# EAGLE library part LF411 (library BME_Components)
Low Offset, Low Drift JFET Input Operational Amplifier, 8-pin MDIP
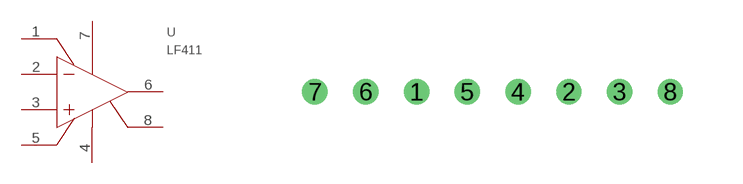
[diagram p28: symbol with the pads of LF411_PDIP-8; footprint LF411_PDIP-8]

Designator prefix U

## LF411LF411_LF411_PDIP-8 (CODE_JEDEC: MS-001-BA; COMPTYPE: Amplifiers; DATASHEETVERSION: Aug-2000; MANUFACTURER: National Semiconductor; PACKAGEDESCRIPTION: MDIP, .365 x .250 x .130in, 8 Lead, .100in Pitch; PACKAGEREFERENCE: N08E; PACKAGETOPMARKING: NSUZXYTTE#*LF*411ACN; PACKAGEVERSION: revG, May-2006; PINCOUNT: 8; POWERWISE: N; ROHS: N)  [LF411_PDIP-8]
1  BAL  pas
2  IN-  in
3  IN+  in
4  V-  pwr
5  BAL  pas
6  OUT  out
7  V+  pwr
8  NC  pas

## Footprint LF411_PDIP-8 (pad centres in mm)
drill 0.127 pad 0.254 round: 1 2.54,0; 2 6.35,0; 3 7.62,0; 4 5.08,0; 5 3.81,0; 6 1.27,0; 7 0,0; 8 8.89,0